# Altium schematic symbol library Misc Connector Mini-DIN.SchLib: 1 symbol
Pins are listed as number, name and electrical type; pins without a type are passive.

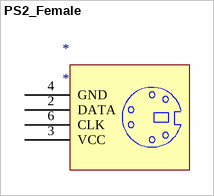
[diagram p0: symbol PS2_Female]

## PS2_Female
designator *
footprint PS2_Female (PS2键盘接口（母头）)
pins: 1 NC hidden, 2 DATA, 3 VCC, 4 GND, 5 NC hidden, 6 CLK